# EAGLE library part JOYSTICK (library X893)
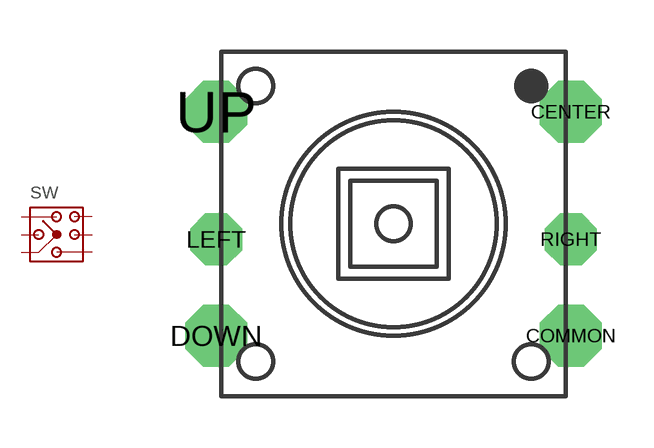
[diagram p83: symbol with the pads of SKQUCAA010; footprint SKQUCAA010]

Designator prefix SW

## JOYSTICK-SKQUCAA010  [SKQUCAA010]
CENTER  CENTER
COMMON  COMMON
DOWN  DOWN
LEFT  LEFT
RIGHT  RIGHT
UP  UP

## Footprint SKQUCAA010 (pad centres in mm)
drill 1.2 octagon: CENTER 5.15,3.25; COMMON 5.15,-3.25; DOWN -5.15,-3.25; UP -5.15,3.25
drill 1 octagon: LEFT -5.15,-0.45; RIGHT 5.15,-0.45